# EAGLE library part AWHW10 (library J-IDC2.54mm)
10POS 2.52MM pitch Boxheader for IDC socktest http://assmann.us/
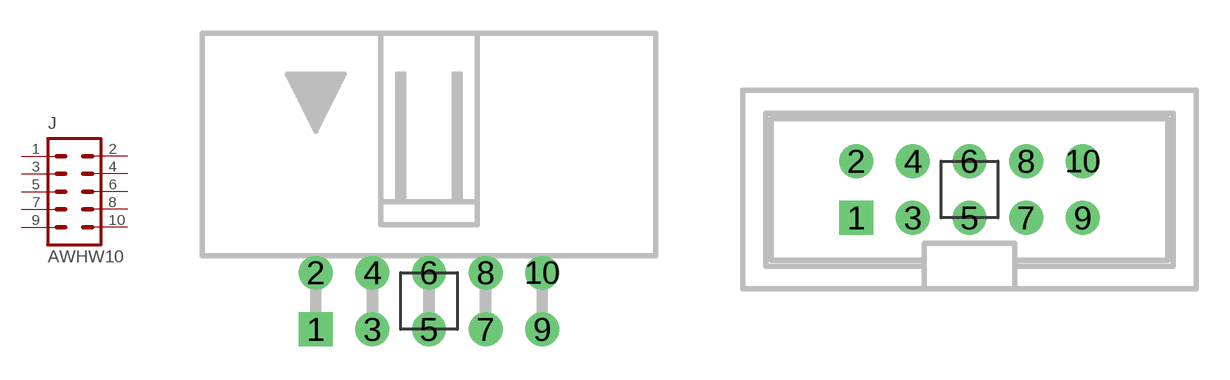
[diagram p1: symbol with the pads of 10A-0202-T-R; footprints 10A-0202-T-R, 10G-0202-T-R]

Designator prefix J

## AWHW10A-0202-T-R  [10A-0202-T-R]
1  1  pas
2  2  pas
3  3  pas
4  4  pas
5  5  pas
6  6  pas
7  7  pas
8  8  pas
9  9  pas
10  10  pas

## AWHW10G-0202-T-R  [10G-0202-T-R]
Pads as for 10A-0202-T-R

## AWHW10-G-SMD-R  [10-G-SMD-R]
Pads as for 10A-0202-T-R

## Footprint 10A-0202-T-R (pad centres in mm)
2.54MM Pitch, 1.016MM drill, diameter is auto (uses DRC restring) AWHW10A-0202-T-R
drill 1.016 square: 1 -5.08,-1.27
drill 1.016: 2 -5.08,1.27; 3 -2.54,-1.27; 4 -2.54,1.27; 5 0,-1.27; 6 0,1.27; 7 2.54,-1.27; 8 2.54,1.27; 9 5.08,-1.27; 10 5.08,1.27

## Footprint 10G-0202-T-R (pad centres in mm)
2.54MM Pitch, 1.016MM drill, diameter is auto (uses DRC restring) AWHW10G-0202-T-R
drill 1.016 square: 1 -5.08,-1.27
drill 1.016: 2 -5.08,1.27; 3 -2.54,-1.27; 4 -2.54,1.27; 5 0,-1.27; 6 0,1.27; 7 2.54,-1.27; 8 2.54,1.27; 9 5.08,-1.27; 10 5.08,1.27

## Footprint 10-G-SMD-R (pad centres in mm)
2.54MM Pitch, 3.9MM X1.02MM PAD 50% round, +/- 2.94MM offset AWHW10-G-SMD-R
smd 1.02 x 3.9: 1 -5.08,-2.94; 2 -5.08,2.94; 3 -2.54,-2.94; 4 -2.54,2.94; 5 0,-2.94; 6 0,2.94; 7 2.54,-2.94; 8 2.54,2.94; 9 5.08,-2.94; 10 5.08,2.94